# EAGLE library part PCA9672 (library ct-bot)
I/O EXPANDER Remote 8-bit I/O expander for Fm+ I2C-bus with interrupt and reset
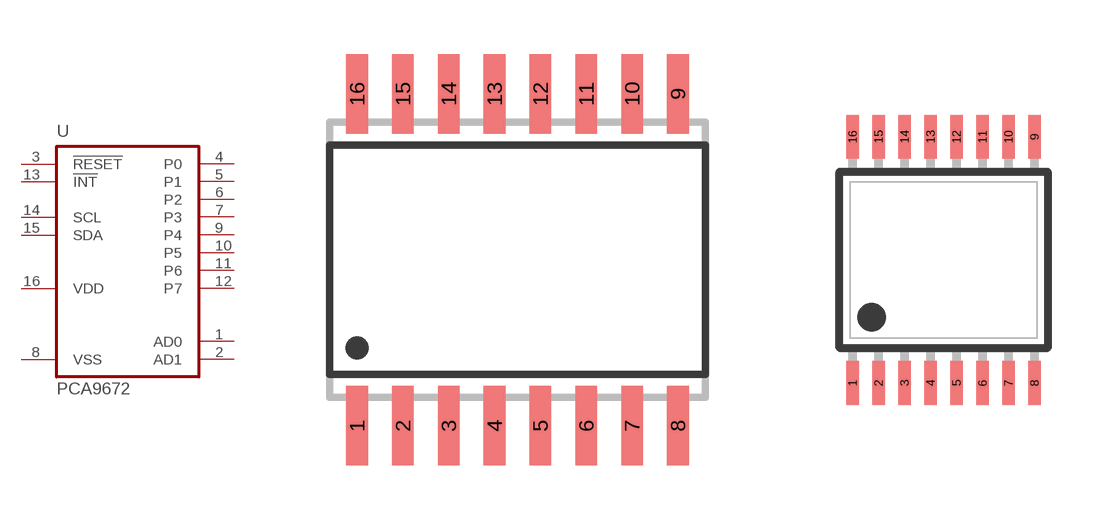
[diagram p13: symbol with the pads of SO16W; footprints SO16W, TSSOP16]

Designator prefix U

## PCA9672D  [SO16W]
1  AD0  in
2  AD1  in
3  !RESET  in
4  P0
5  P1
6  P2
7  P3
8  VSS  pwr
9  P4
10  P5
11  P6
12  P7
13  !INT  out
14  SCL  in
15  SDA
16  VDD  pwr

## PCA9672PW  [TSSOP16]
Pads as for SO16W

## PCA9672BS  [HVQFN16-S3]
1  !RESET  in
2  P0
3  P1
4  P2
5  P3
6  VSS  pwr
7  P4
8  P5
9  P6
10  P7
11  !INT  out
12  SCL  in
13  SDA
14  VDD  pwr
15  AD0  in
16  AD1  in

## Footprint SO16W (pad centres in mm)
SMALL OUTLINE INTEGRATED CIRCUIT wide body 7.5 mm/JEDEC MS-013AA
smd 0.6 x 2.2: 1 -4.445,-4.6; 2 -3.175,-4.6; 3 -1.905,-4.6; 4 -0.635,-4.6; 5 0.635,-4.6; 6 1.905,-4.6; 7 3.175,-4.6; 8 4.445,-4.6; 9 4.445,4.6; 10 3.175,4.6; 11 1.905,4.6; 12 0.635,4.6; 13 -0.635,4.6; 14 -1.905,4.6; 15 -3.175,4.6; 16 -4.445,4.6

## Footprint TSSOP16 (pad centres in mm)
Thin Shrink Small Outline Plastic 16
smd 0.31 x 1.1: 1 -2.275,-3.08; 2 -1.625,-3.08; 3 -0.975,-3.08; 4 -0.325,-3.08; 5 0.325,-3.08; 6 0.975,-3.08; 7 1.625,-3.08; 8 2.275,-3.08; 9 2.275,3.08; 10 1.625,3.08; 11 0.975,3.08; 12 0.325,3.08; 13 -0.325,3.08; 14 -0.975,3.08; 15 -1.625,3.08; 16 -2.275,3.08

## Footprint HVQFN16-S3 (pad centres in mm)
HVQFN16 - (SOT758-1) body 3 x 3 x 0.85 mm, JEDEC MO-220
smd 0.7 x 0.3: 1 -1.5,0.75; 2 -1.5,0.25; 3 -1.5,-0.25; 4 -1.5,-0.75; 9 1.5,-0.75; 10 1.5,-0.25; 11 1.5,0.25; 12 1.5,0.75
smd 0.3 x 0.7: 5 -0.75,-1.5; 6 -0.25,-1.5; 7 0.25,-1.5; 8 0.75,-1.5; 13 0.75,1.5; 14 0.25,1.5; 15 -0.25,1.5; 16 -0.75,1.5